# EAGLE library part MAX5035 (library MAX5035)
SWITCHING REGULATOR 5.0V 1.0A
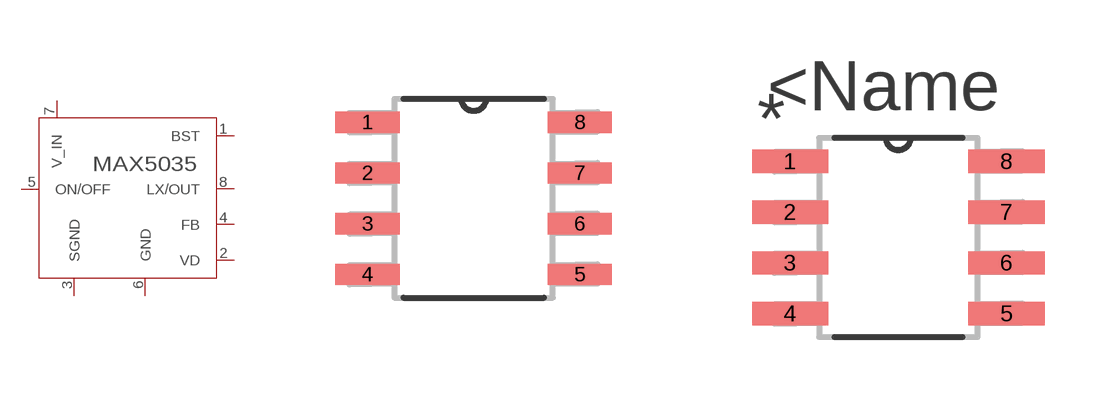
[diagram p0: symbol with the pads of 21-0111D_SBE-14; footprints 21-0111D_SBE-14, 21-0111D_SBE-14-M]

Designator prefix U

## MAX5035  [21-0111D_SBE-14]
1  BST  pas
2  VD  in
3  SGND  pwr
4  FB  in
5  ON/OFF  in
6  GND  pas
7  V_IN  pwr
8  LX/OUT  out

## MAX503521-0111D_SBE-14-M (MANUFACTURER_PART_NUMBER: MAX5033BUSA+; VENDOR: MAXIM)  [21-0111D_SBE-14-M]

## MAX503521-0111D_SBE-14-L (MANUFACTURER_PART_NUMBER: MAX5033BUSA+; VENDOR: MAXIM)  [21-0111D_SBE-14-L]

## Footprint 21-0111D_SBE-14 (pad centres in mm)
smd 1.6 x 0.533: 1 -2.654,1.905; 2 -2.654,0.635; 3 -2.654,-0.635; 4 -2.654,-1.905; 5 2.654,-1.905; 6 2.654,-0.635; 7 2.654,0.635; 8 2.654,1.905

## Footprint 21-0111D_SBE-14-M (pad centres in mm)
smd 1.905 x 0.584: 1 -2.705,1.905; 2 -2.705,0.635; 3 -2.705,-0.635; 4 -2.705,-1.905; 5 2.705,-1.905; 6 2.705,-0.635; 7 2.705,0.635; 8 2.705,1.905

## Footprint 21-0111D_SBE-14-L (pad centres in mm)
smd 1.295 x 0.483: 1 -2.603,1.905; 2 -2.603,0.635; 3 -2.603,-0.635; 4 -2.603,-1.905; 5 2.603,-1.905; 6 2.603,-0.635; 7 2.603,0.635; 8 2.603,1.905